# Altium footprint library RayPCB20210502.PcbLib: 211 footprints (part 14 of 14)
Each footprint in its own frame and in the unit in brackets; x right, y up, seen from the top. Pads: shape width x height; smd on the part's side, far side on the other; paste and mask are expansions set on the pad; w line width, h text height; cw(c..) or ccw(c..) is an arc to the next point about the centre after c.
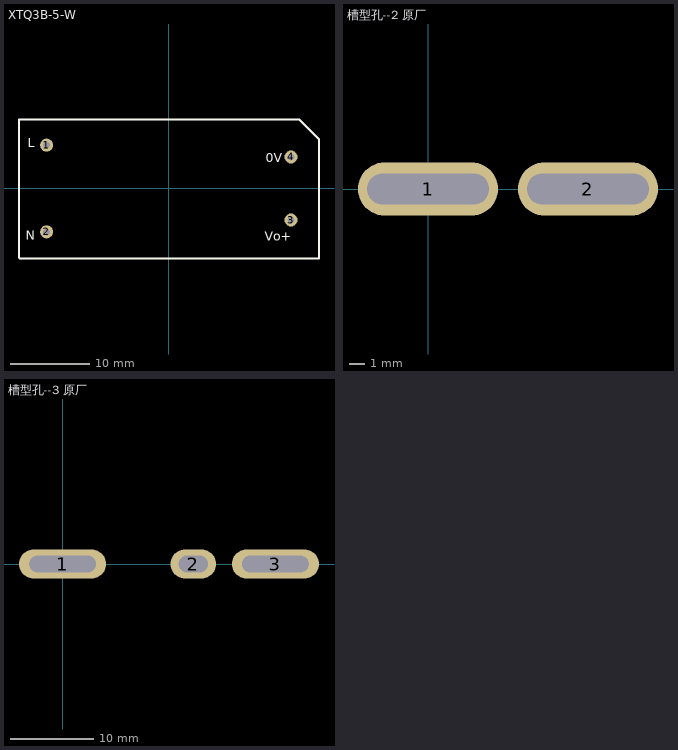
[diagram p13: the footprints below, top view; thin cyan lines are the x and y axes]

## XTQ3B-5-W [mil] "AC_DCXTQ3B-5-W"
pads (4):
  round 65 hole 35: 1(-610.24,216.54) 2(-610.24,-216.54) 3(610.24,-157.48) 4(610.24,157.48)
Top Overlay:
  lines w10: -748.03,-344.49 -748.03,344.49 650.51,344.49 750,245 ; -745,-350 750,-350 750,245 ; 640,345 650,345 750,245
  text "0V" at 485,130 h45
  text "Vo+" at 480,-260 h45
  text "N" at -715,-255 h45
  text "L" at -705,205 h45

## 槽型孔--2 原厂 [mm]
pads (2):
  oval 9.2x3.5 hole 2 slot 8 at 0 deg paste+0: 1(0,0) 2(10.5,0)

## 槽型孔--3 原厂 [mm]
pads (3):
  oval 10.5x3.5 hole 2 slot 8 at 0 deg paste+0: 1(0,0) 3(25.634,0)
  oval 5.5x3.5 hole 2 slot 3.5 at 0 deg paste+0: 2(15.748,0)